# Altium footprint library 4.04-2.00mm排针-排母.PcbLib: 31 footprints (part 1 of 2)
Each footprint in its own frame and in the unit in brackets; x right, y up, seen from the top. Pads: shape width x height; smd on the part's side, far side on the other; paste and mask are expansions set on the pad; w line width, h text height; cw(c..) or ccw(c..) is an arc to the next point about the centre after c.
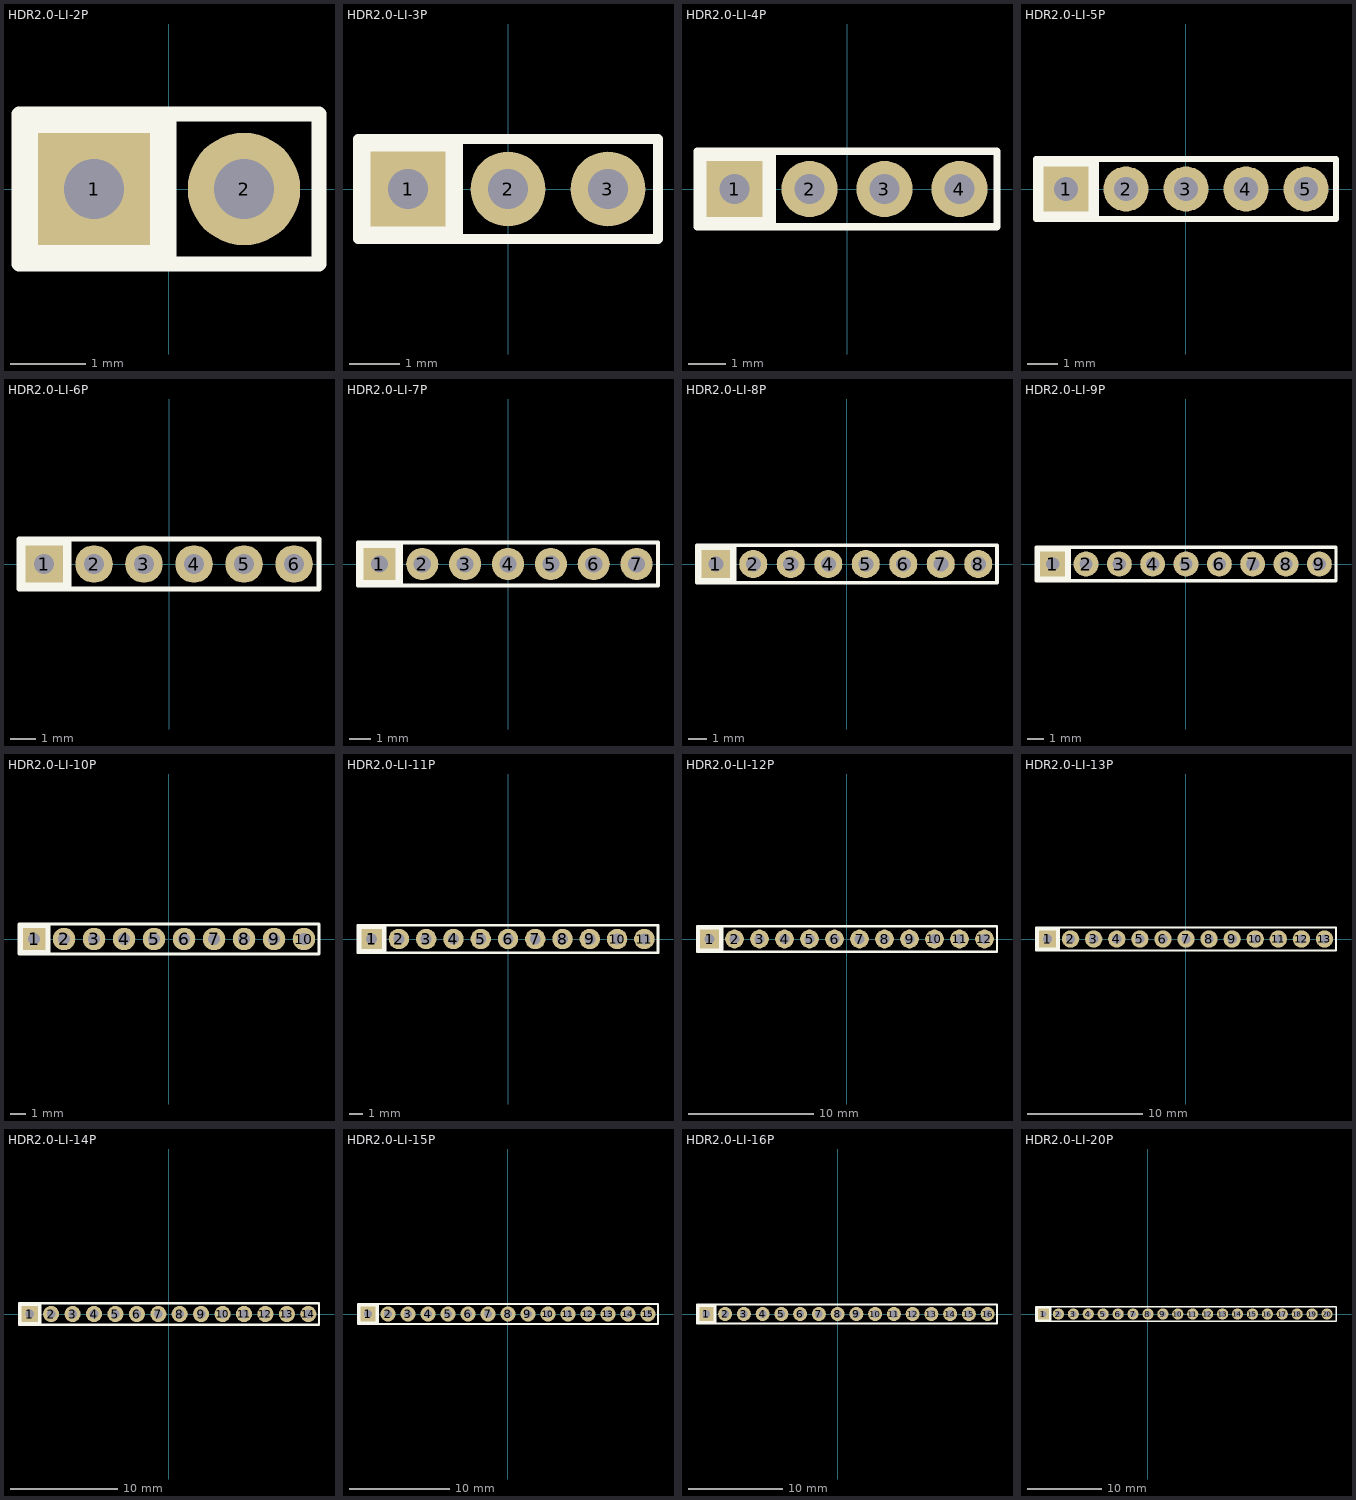
[diagram p0: the footprints below, top view; thin cyan lines are the x and y axes]

## HDR2.0-LI-2P [mm] "直插，脚距：2.0mm                  联系卖家 免费查找封装"
pads (2):
  rect 1.5x1.5 hole 0.8: 1(-1,0)
  round 1.5 hole 0.8: 2(1,0)
Top Overlay:
  rectangle: -2,-1 0,1
  lines w0.2: 0,-1 0,1 ; -2,-1 2,-1 2,1 -2,1 -2,-1
3D body "HDR2.0-LI-2P.STEP": height 6.5, standoff -2.8, extent -2,-1 2,1

## HDR2.0-LI-3P [mm] "直插，脚距：2.0mm                  联系卖家 免费查找封装"
pads (3):
  rect 1.5x1.5 hole 0.8: 1(-2,0)
  round 1.5 hole 0.8: 2(0,0) 3(2,0)
Top Overlay:
  rectangle: -3,-1 -1,1
  lines w0.2: -1,-1 -1,1 ; -3,-1 -3,1 3,1 3,-1 -3,-1
3D body "HDR2.0-LI-3P.STEP": height 2.3, standoff -7, extent -3,-1 3,1

## HDR2.0-LI-4P [mm] "直插，脚距：2.0mm                  联系卖家 免费查找封装"
pads (4):
  rect 1.5x1.5 hole 0.8: 1(-3,0)
  round 1.5 hole 0.8: 2(-1,0) 3(1,0) 4(3,0)
Top Overlay:
  rectangle: -4,-1 -2,1
  lines w0.2: -2,-1 -2,1 ; -4,-1 -4,1 4,1 4,-1 -4,-1
3D body "HDR2.0-LI-4P.STEP": height 6.5, standoff -2.8, extent -4,-1 4,1

## HDR2.0-LI-5P [mm] "直插，脚距：2.0mm                 联系卖家 免费查找封装"
pads (5):
  rect 1.5x1.5 hole 0.8: 1(-4,0)
  round 1.5 hole 0.8: 2(-2,0) 3(0,0) 4(2,0) 5(4,0)
Top Overlay:
  rectangle: -5,-1 -3,1
  lines w0.2: -3,-1 -3,1 ; -5,-1 5,-1 ; -5,-1 -5,1 5,1 5,-1 ; -5,-1 5,-1
3D body "HDR2.0-LI-5P.STEP": height 6.5, standoff -2.8, extent -5,-1 5,1

## HDR2.0-LI-6P [mm] "直插，脚距：2.0mm 封装库来自淘宝卖家 ID：黄晶宝石"
pads (6):
  rect 1.5x1.5 hole 0.8: 1(-5,0)
  round 1.5 hole 0.8: 2(-3,0) 3(-1,0) 4(1,0) 5(3,0) 6(5,0)
Top Overlay:
  rectangle: -6,-1 -4,1
  lines w0.2: -4,-1 -4,1 ; -6,-1 -6,1 6,1 6,-1 -6,-1
3D body "HDR2.0-LI-6P.STEP": height 6.5, standoff -2.8, extent -6,-1 6,1

## HDR2.0-LI-7P [mm] "直插，脚距：2.0mm                  联系卖家 免费查找封装"
pads (7):
  rect 1.5x1.5 hole 0.8: 1(-6,0)
  round 1.5 hole 0.8: 2(-4,0) 3(-2,0) 4(0,0) 5(2,0) 6(4,0) 7(6,0)
Top Overlay:
  rectangle: -7,-1 -5,1
  lines w0.2: -5,-1 -5,1 ; -7,-1 -7,1 7,1 7,-1 -7,-1
3D body "HDR2.0-LI-7P.STEP": height 6.5, standoff -2.8, extent -7,-1 7,1

## HDR2.0-LI-8P [mm] "直插，脚距：2.0mm                  联系卖家 免费查找封装"
pads (8):
  rect 1.5x1.5 hole 0.8: 1(-7,0)
  round 1.5 hole 0.8: 2(-5,0) 3(-3,0) 4(-1,0) 5(1,0) 6(3,0) 7(5,0) 8(7,0)
Top Overlay:
  rectangle: -8,-1 -6,1
  lines w0.2: -6,-1 -6,1 ; -8,-1 8,-1 8,1 -8,1 -8,-1
3D body "HDR2.0-LI-8P.STEP": height 6.5, standoff -2.8, extent -8,-1 8,1

## HDR2.0-LI-9P [mm] "直插，脚距：2.0mm                 联系卖家 免费查找封装"
pads (9):
  rect 1.5x1.5 hole 0.8: 1(-8,0)
  round 1.5 hole 0.8: 2(-6,0) 3(-4,0) 4(-2,0) 5(0,0) 6(2,0) 7(4,0) 8(6,0) 9(8,0)
Top Overlay:
  rectangle: -9,-1 -7,1
  lines w0.2: -7,-1 -7,1 ; -9,-1 -9,1 9,1 9,-1 -9,-1
3D body "HDR2.0-LI-9P.STEP": height 6.5, standoff -2.8, extent -9,-1 9,1

## HDR2.0-LI-10P [mm] "直插，脚距：2.0mm                 联系卖家 免费查找封装"
pads (10):
  rect 1.5x1.5 hole 0.8: 1(-9,0)
  round 1.5 hole 0.8: 2(-7,0) 3(-5,0) 4(-3,0) 5(-1,0) 6(1,0) 7(3,0) 8(5,0) 9(7,0) 10(9,0)
Top Overlay:
  rectangle: -10,-1 -8,1
  lines w0.2: -8,-1 -8,1 ; -10,-1 -10,1 10,1 10,-1 -10,-1
3D body "HDR2.0-LI-10P.STEP": height 6.5, standoff -2.8, extent -10,-1 10,1

## HDR2.0-LI-11P [mm] "直插，脚距：2.0mm                 联系卖家 免费查找封装"
pads (11):
  rect 1.5x1.5 hole 0.8: 1(-10,0)
  round 1.5 hole 0.8: 2(-8,0) 3(-6,0) 4(-4,0) 5(-2,0) 6(0,0) 7(2,0) 8(4,0) 9(6,0) 10(8,0) 11(10,0)
Top Overlay:
  rectangle: -11,-1 -9,1
  lines w0.2: -9,-1 -9,1 ; -11,-1 -11,1 11,1 11,-1 -11,-1
3D body "HDR2.0-LI-11P.STEP": height 6.5, standoff -2.8, extent -11.1,-1 10.9,1

## HDR2.0-LI-12P [mm] "直插，脚距：2.0mm                 联系卖家 免费查找封装"
pads (12):
  rect 1.5x1.5 hole 0.8: 1(-11,0)
  round 1.5 hole 0.8: 2(-9,0) 3(-7,0) 4(-5,0) 5(-3,0) 6(-1,0) 7(1,0) 8(3,0) 9(5,0) 10(7,0) 11(9,0) 12(11,0)
Top Overlay:
  rectangle: -12,-1 -10,1
  lines w0.2: -10,-1 -10,1 ; -12,-1 12,-1 12,1 -12,1 -12,-1
3D body "HDR2.0-LI-12P.STEP": height 6.5, standoff -2.8, extent -12,-1 12,1

## HDR2.0-LI-13P [mm] "直插，脚距：2.0mm                 联系卖家 免费查找封装"
pads (13):
  rect 1.5x1.5 hole 0.8: 1(-12,0)
  round 1.5 hole 0.8: 2(-10,0) 3(-8,0) 4(-6,0) 5(-4,0) 6(-2,0) 7(0,0) 8(2,0) 9(4,0) 10(6,0) 11(8,0) 12(10,0) 13(12,0)
Top Overlay:
  rectangle: -13,-1 -11,1
  lines w0.2: -11,-1 -11,1 ; -13,-1 13,-1 13,1 -13,1 -13,-1
3D body "HDR2.0-LI-13P.STEP": height 6.5, standoff -2.8, extent -13,-0.9 13,1.1

## HDR2.0-LI-14P [mm] "直插，脚距：2.0mm                 联系卖家 免费查找封装"
pads (14):
  rect 1.5x1.5 hole 0.8: 1(-13,0)
  round 1.5 hole 0.8: 2(-11,0) 3(-9,0) 4(-7,0) 5(-5,0) 6(-3,0) 7(-1,0) 8(1,0) 9(3,0) 10(5,0) 11(7,0) 12(9,0) 13(11,0) 14(13,0)
Top Overlay:
  rectangle: -14,-1 -12,1
  lines w0.2: -12,-1 -12,1 ; -14,-1 -14,1 14,1 14,-1 -14,-1
3D body "HDR2.0-LI-14P.STEP": height 6.5, standoff -2.8, extent -14,-1 14,1

## HDR2.0-LI-15P [mm] "直插，脚距：2.0mm                 联系卖家 免费查找封装"
pads (15):
  rect 1.5x1.5 hole 0.8: 1(-14,0)
  round 1.5 hole 0.8: 2(-12,0) 3(-10,0) 4(-8,0) 5(-6,0) 6(-4,0) 7(-2,0) 8(0,0) 9(2,0) 10(4,0) 11(6,0) 12(8,0) 13(10,0) 14(12,0) 15(14,0)
Top Overlay:
  rectangle: -15,-1 -13,1
  lines w0.2: -13,-1 -13,1 ; -15,-1 -15,1 15,1 15,-1 -15,-1
3D body "HDR2.0-LI-15P.STEP": height 6.5, standoff -2.8, extent -15,-1 15,1

## HDR2.0-LI-16P [mm] "直插，脚距：2.0mm                 联系卖家 免费查找封装"
pads (16):
  rect 1.5x1.5 hole 0.8: 1(-14,0)
  round 1.5 hole 0.8: 2(-12,0) 3(-10,0) 4(-8,0) 5(-6,0) 6(-4,0) 7(-2,0) 8(0,0) 9(2,0) 10(4,0) 11(6,0) 12(8,0) 13(10,0) 14(12,0) 15(14,0) 16(16,0)
Top Overlay:
  rectangle: -15,-1 -13,1
  lines w0.2: -13,-1 -13,1 ; -15,-1 -15,1 17,1 17,-1 -15,-1
3D body "HDR2_0-LI-16P.stp": height 6.5, standoff -2.8, extent -15,-1 17,1

## HDR2.0-LI-20P [mm] "直插，脚距：2.0mm                 联系卖家 免费查找封装"
pads (20):
  rect 1.5x1.5 hole 0.8: 1(-14,0)
  round 1.5 hole 0.8: 2(-12,0) 3(-10,0) 4(-8,0) 5(-6,0) 6(-4,0) 7(-2,0) 8(0,0) 9(2,0) 10(4,0) 11(6,0) 12(8,0) 13(10,0) 14(12,0) 15(14,0) 16(16,0) 17(18,0) 18(20,0) 19(22,0) 20(24,0)
Top Overlay:
  rectangle: -15,-1 -13,1
  lines w0.2: -13,-1 -13,1 ; -15,-1 25.2,-1 25.2,1 -15,1 -15,-1
3D body "HDR2_0-LI-20P-2.stp": height 6.5, standoff -2.8, extent -15,-1 25,1